# Altium footprint library IDC_14PINS.PcbLib: 1 footprints
Each footprint in its own frame and in the unit in brackets; x right, y up, seen from the top. Pads: shape width x height; smd on the part's side, far side on the other; paste and mask are expansions set on the pad; w line width, h text height; cw(c..) or ccw(c..) is an arc to the next point about the centre after c.
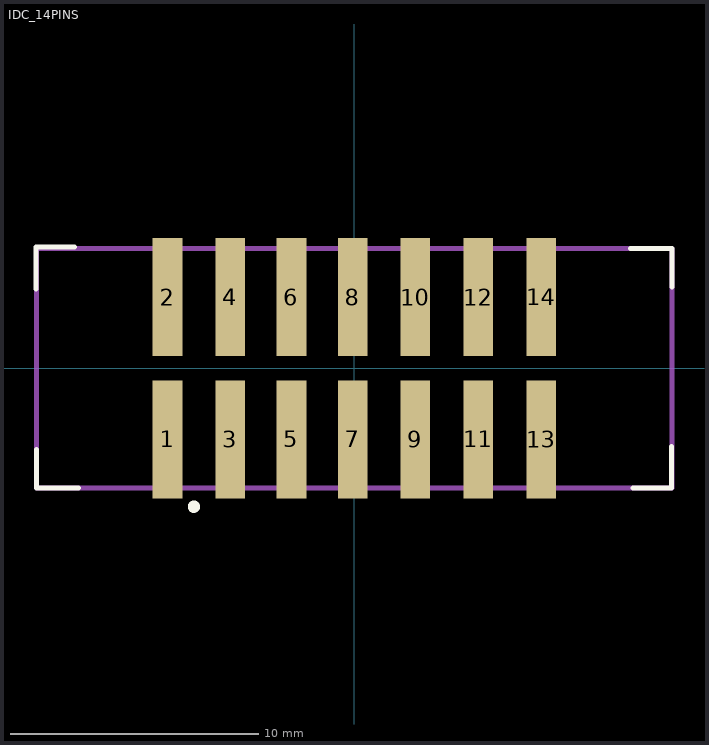
[diagram p0: the footprint, top view; thin cyan lines are the x and y axes]

## IDC_14PINS [mm]
pads (14):
  rect 1.2x4.75 smd paste+0 mask+0: 1(-7.54,-2.875) 2(-7.54,2.875) 3(-5.01,-2.875) 4(-5.01,2.875) 5(-2.54,-2.875) 6(-2.54,2.875) 7(-0.07,-2.875) 8(-0.07,2.875) 9(2.46,-2.875) 10(2.46,2.875) 11(5,-2.875) 12(5,2.875) 13(7.54,-2.875) 14(7.54,2.875)
Top Overlay:
  circle w0.25: c-6.477,-5.588 r0.125
  lines w0.2: -12.859,3.206 -12.859,4.888 -11.305,4.888 ; -12.827,-3.272 -12.827,-4.826 -11.145,-4.826 ; 11.145,4.826 12.827,4.826 12.827,3.272 ; 11.244,-4.833 12.798,-4.833 12.798,-3.151
Top Assembly:
  text ".Designator" at 0,-2.687 h1
Top Courtyard:
  lines w0.2: -12.827,-4.826 12.827,-4.826 12.827,4.826 -12.827,4.826 -12.827,-4.826
3D body "3020-14-0300-00 3D.STEP": height 10.34, standoff 0, extent -12.7,-4.75 12.7,4.75